# Altium schematic symbol library MCU_Microchip_SAMA.SchLib: 1 symbol
Pins are listed as number, name and electrical type; pins without a type are passive.

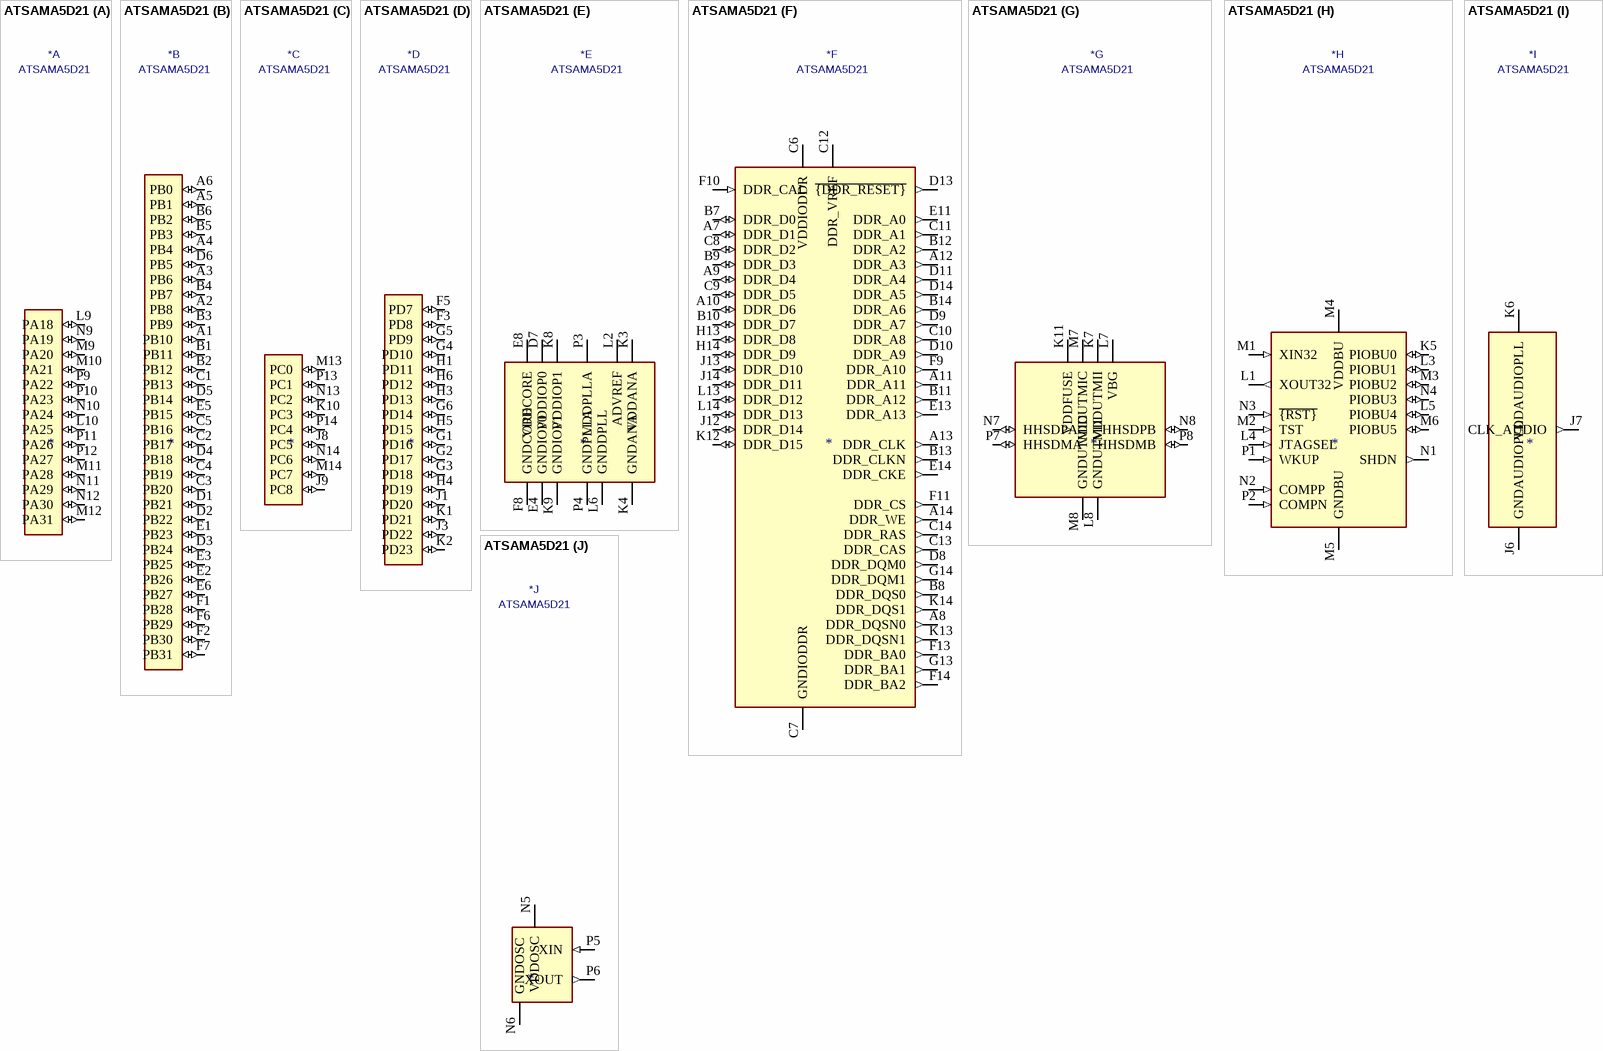
[diagram p0: symbol ATSAMA5D21]

## ATSAMA5D21
designator *  value ATSAMA5D21
ki_keywords: MPU Cortex-A5 Cortex A5 Linux DDR DRAM BGA; ki_description: ARM Cortex-A5 MPU, 500 MHz max, 1x SDIO/SD-CARD/eMMC/QSPI memory, 128 kB SRAM, 16-bit bus DDR2/DDR3 RAM, 1.1-1.32 V, 72 GPIO, TFBGA-196; ki_fp_filters: Microchip*TFBGA*11x11mm*P0.75mm*; Footprint: Package_BGA:Microchip_TFBGA-196_11x11mm_Layout14x14_P0.75mm_SMD; Supplier: http://ww1.microchip.com/downloads/en/DeviceDoc/SAMA5D2-Series-Data-Sheet-DS60001476C.pdf
footprint Microchip_TFBGA-196_11x11mm_Layout14x14_P0.75mm_SMD
part A pins: L9 PA18 (io), L10 PA25 (io), M9 PA20 (io), M10 PA21 (io), M11 PA28 (io), M12 PA31 (io), N9 PA19 (io), N10 PA24 (io), N11 PA29 (io), N12 PA30 (io), P9 PA22 (io), P10 PA23 (io), P11 PA26 (io), P12 PA27 (io)
part B pins: A1 PB10 (io), A2 PB8 (io), A3 PB6 (io), A4 PB4 (io), A5 PB1 (io), A6 PB0 (io), B1 PB11 (io), B2 PB12 (io), B3 PB9 (io), B4 PB7 (io), B5 PB3 (io), B6 PB2 (io), C1 PB13 (io), C2 PB17 (io), C3 PB20 (io), C4 PB19 (io), C5 PB16 (io), D1 PB21 (io), D2 PB22 (io), D3 PB24 (io), D4 PB18 (io), D5 PB14 (io), D6 PB5 (io), E1 PB23 (io), E2 PB26 (io), E3 PB25 (io), E5 PB15 (io), E6 PB27 (io), F1 PB28 (io), F2 PB30 (io), F6 PB29 (io), F7 PB31 (io)
part C pins: J8 PC5 (io), J9 PC8 (io), K10 PC3 (io), M13 PC0 (io), M14 PC7 (io), N13 PC2 (io), N14 PC6 (io), P13 PC1 (io), P14 PC4 (io)
part D pins: F3 PD8 (io), F5 PD7 (io), G1 PD16 (io), G2 PD17 (io), G3 PD18 (io), G4 PD10 (io), G5 PD9 (io), G6 PD14 (io), H1 PD11 (io), H3 PD13 (io), H4 PD19 (io), H5 PD15 (io), H6 PD12 (io), J1 PD20 (io), J3 PD22 (io), K1 PD21 (io), K2 PD23 (io)
part E pins: D7 VDDIOP0 (power), E4 GNDIOP0 (power), E7 GNDIOP0 hidden, E8 VDDCORE (power), F4 VDDIOP0 hidden, F8 GNDCORE (power), G7 GNDCORE hidden, G8 VDDCORE hidden, G9 GNDCORE hidden, H2 VDDANA hidden, H7 GNDCORE hidden, H8 VDDCORE hidden, H9 VDDCORE hidden, J2 GNDANA hidden, J4 GNDCORE hidden, J5 VDDCORE hidden, K3 VDDANA (power), K4 GNDANA (power), K8 VDDIOP1 (power), K9 GNDIOP1 (power), L2 ADVREF (power), L6 GNDDPLL (power), L11 VDDIOP1 hidden, L12 GNDIOP1 hidden, P3 VDDPLLA (power), P4 GNDPLLA (power)
part F pins: A7 DDR_D1 (io), A8 DDR_DQSN0 (out), A9 DDR_D4 (io), A10 DDR_D6 (io), A11 DDR_A11 (out), A12 DDR_A3 (out), A13 DDR_CLK (out), A14 DDR_WE (out), B7 DDR_D0 (io), B8 DDR_DQS0 (out), B9 DDR_D3 (io), B10 DDR_D7 (io), B11 DDR_A12 (out), B12 DDR_A2 (out), B13 DDR_CLKN (out), B14 DDR_A6 (out), C6 VDDIODDR (power), C7 GNDIODDR (power), C8 DDR_D2 (io), C9 DDR_D5 (io), C10 DDR_A8 (out), C11 DDR_A1 (out), C12 DDR_VREF (power), C13 DDR_CAS (out), C14 DDR_RAS (out), D8 DDR_DQM0 (out), D9 DDR_A7 (out), D10 DDR_A9 (out), D11 DDR_A4 (out), D12 GNDIODDR hidden, D13 ~{{DDR_RESET}} (out), D14 DDR_A5 (out), E9 GNDIODDR hidden, E10 VDDIODDR hidden, E11 DDR_A0 (out), E12 VDDIODDR hidden, E13 DDR_A13 (out), E14 DDR_CKE (out), F9 DDR_A10 (out), F10 DDR_CAL (in), F11 DDR_CS (out), F12 GNDIODDR hidden, F13 DDR_BA0 (out), F14 DDR_BA2 (out), G10 VDDIODDR hidden, G11 GNDIODDR hidden, G12 VDDIODDR hidden, G13 DDR_BA1 (out), G14 DDR_DQM1 (out), H10 GNDIODDR hidden, H11 VDDIODDR hidden, H12 DDR_VREF hidden, H13 DDR_D8 (io), H14 DDR_D9 (io), J10 VDDIODDR hidden, J11 GNDIODDR hidden, J12 DDR_D14 (io), J13 DDR_D10 (io), J14 DDR_D11 (io), K12 DDR_D15 (io), K13 DDR_DQSN1 (out), K14 DDR_DQS1 (out), L13 DDR_D12 (io), L14 DDR_D13 (io)
part G pins: K7 VDDUTMII (power), K11 VDDFUSE (power), L7 VBG (power), L8 GNDUTMII (power), M7 VDDUTMIC (power), M8 GNDUTMIC (power), N7 HHSDPA (io), N8 HHSDPB (io), P7 HHSDMA (io), P8 HHSDMB (io)
part H pins: K5 PIOBU0 (io), L1 XOUT32 (out), L3 PIOBU1 (io), L4 JTAGSEL (in), L5 PIOBU4 (io), M1 XIN32 (in), M2 TST (in), M3 PIOBU2 (io), M4 VDDBU (power), M5 GNDBU (power), M6 PIOBU5 (io), N1 SHDN (out), N2 COMPP (in), N3 ~{{RST}} (in), N4 PIOBU3 (io), P1 WKUP (in), P2 COMPN (in)
part I pins: J6 GNDAUDIOPLL (power), J7 CLK_AUDIO (out), K6 VDDAUDIOPLL (power)
part J pins: N5 VDDOSC (power), N6 GNDOSC (power), P5 XIN (in), P6 XOUT (out)